# Altium schematic symbol library 1NT251A2 OS.Schlib: 1 symbol
Pins are listed as number, name and electrical type; pins without a type are passive.

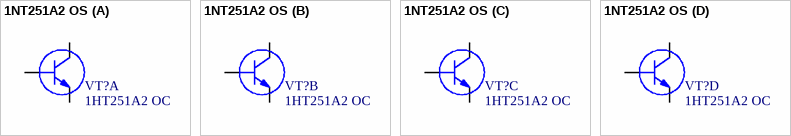
[diagram p0: symbol 1NT251A2 OS]

## 1NT251A2 OS
designator VT?, comment 1HT251A2 ОС
NPN Transistor; Наименование: 1НТ251А2 ОС; Назначение: Транзисторная сборка
footprint 14PIN FLATPACK
part A pins: 2 B, 13 E, 14 C
part B pins: 3 E, 4 C, 12 B
part C pins: 5 B, 10 E, 11 C
part D pins: 6 E, 7 C, 9 B